# Altium schematic symbol library 20231022_PIFProject_LibSch_VuHuy_v1.SchLib: 7 symbols
Pins are listed as number, name and electrical type; pins without a type are passive.

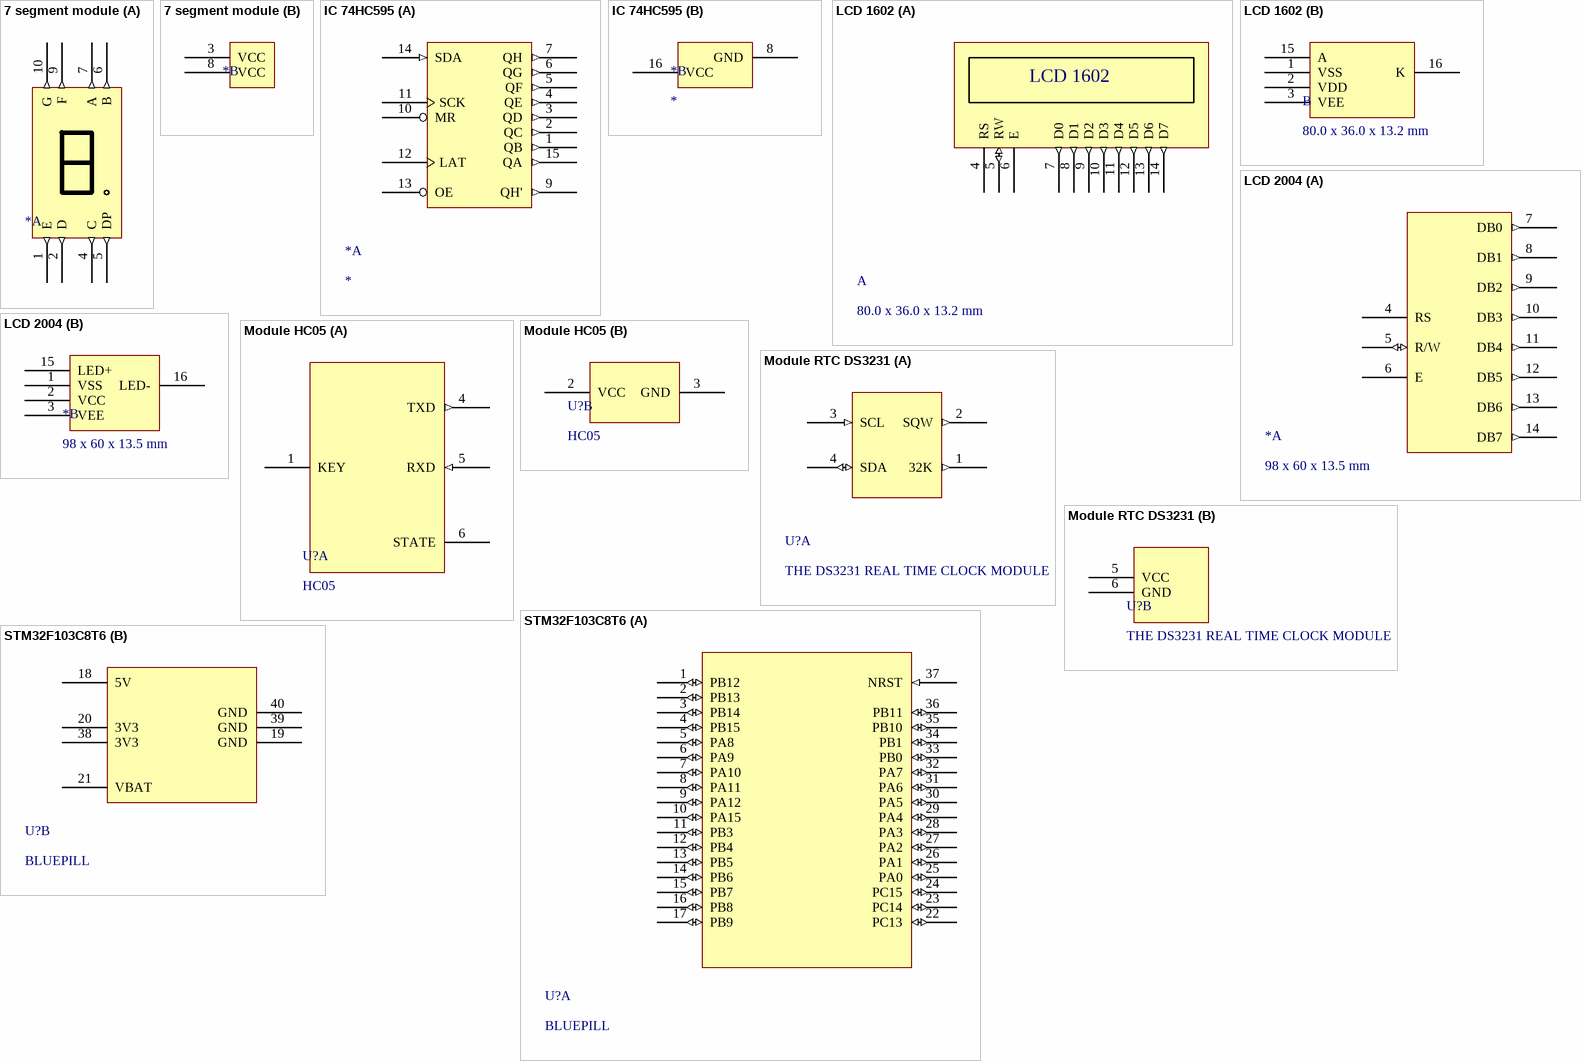
[diagram p0: symbols 7 segment module to STM32F103C8T6]

## 7 segment module
designator *
DISPLAY LED 7-SEG 0,56
footprint 7 Segment Module
part A pins: 1 E (out), 2 D (out), 4 C (out), 5 DP (out), 6 B (out), 7 A (out), 9 F (out), 10 G (out)
part B pins: 3 VCC (power), 8 VCC (power)

## IC 74HC595
designator *
Điện áp hoạt động: 2V đến 6V; Mức tiêu thụ điện: 80uA; Source ra / dòng sink: 35mA; Điện áp đầu vào mức cao tối thiểu: 3,15V @ (Vcc = 4,5V); Điện áp đầu vào mức thấp tối đa: 1.35V @ (Vcc = 4.5V)
footprint IC 74HC595 (SOIC, 16-Leads, Body 10x6.2mm, Pitch 1,27mm, IPC Medium Density)
part A pins: 1 QB (out), 2 QC (out), 3 QD (out), 4 QE (out), 5 QF (out), 6 QG (out), 7 QH (out), 9 QH' (out), 10 MR, 11 SCK, 12 LAT, 13 OE, 14 SDA (in), 15 QA (out)
part B pins: 8 GND, 16 VCC (power)

## LCD 1602
designator ?, comment 80.0 x 36.0 x 13.2 mm
Display format: 16 x 2 characters; Built-in controller: ST 7066 (or equivalent); Duty cycle: 1/16; power supply: 5 V; Type: Character; Parameter 6: *; Parameter 7: *; Parameter 8: *
footprint LCD 1602
part A pins: 4 RS, 5 RW (io), 6 E, 7 D0 (out), 8 D1 (out), 9 D2 (out), 10 D3 (out), 11 D4 (out), 12 D5 (out), 13 D6 (out), 14 D7 (out)
part B pins: 1 VSS (power), 2 VDD (power), 3 VEE (power), 15 A, 16 K

## LCD 2004
designator *, comment 98 x 60 x 13.5 mm
Điện áp hoạt động: 5 V; Chữ đen, nền xanh dương/ chữ trắng, nền xanh dương: *; driver HD44780: *
footprint LCD 2004
part A pins: 4 RS, 5 R/W (io), 6 E, 7 DB0 (out), 8 DB1 (out), 9 DB2 (out), 10 DB3 (out), 11 DB4 (out), 12 DB5 (out), 13 DB6 (out), 14 DB7 (out)
part B pins: 1 VSS, 2 VCC, 3 VEE, 15 LED+, 16 LED-

## Module HC05
designator U?, comment HC05
/ Sensitivity: ≤-84dBm at 0.1% BER / Speed: Asynchronous communication: 2.1Mbps (Max) / 160 kbps, Synchronous communication: 1Mbps/1Mbps / Security: Authentication and encryption / Profiles: Bluetooth serial port / Working temperature: -20 ~ +75Centigrade / Dimension: 26.9mm x 13mm x 2.2 mm; Frequency: 2.4GHz ISM band; Supply Voltage: +3.3V to 6.0 V; Emission power: ≤4dBm, Class 2; Supply Current: 30mA; Bluetooth protocol: Bluetooth Specification v2.0+EDR (Enhanced Data Rate); Parameter 1: *; Parameter 2: *
footprint Module HC05 (Dimension: 26.9mm x 13mm x 2.2 mm)
part A pins: 1 KEY, 4 TXD (out), 5 RXD (in), 6 STATE
part B pins: 2 VCC (power), 3 GND

## Module RTC DS3231
designator U?, comment THE DS3231 REAL TIME CLOCK MODULE
Accuracy: +2ppm to -2ppm for 0ºC to +40ºC , +3.5ppm to -3.5ppm for -40ºC to +85ºC; Digital temperature sensor: ±3ºC accuracy; Two Time-of-day alarms: *; Programmable square wave output: *; Parameter 5: *
footprint MODULE RTC DS3231
part A pins: 1 32K (out), 2 SQW (out), 3 SCL (in), 4 SDA (io)
part B pins: 5 VCC (power), 6 GND

## STM32F103C8T6
designator U?, comment BLUEPILL
Stmicroelectronics - Microcontroller Mcu, 32 Bit, Cortex-M3, 72Mhz, Lqfp-48 - Stm32F103C8T6 |Stmicroelectronics STM32F103C8T6; Manufacturer: ST-Microelectronics; Core: Arm Cortex-M3; Sources: Any +3.3V pin (+3.3V); Max. Clock Speed: 72MHz; Package: LQFP 40 pins
footprint STM32F103 BLUEPILL (Dimension 53.34x15.24mm)
part A pins: 1 PB12 (io), 2 PB13 (io), 3 PB14 (io), 4 PB15 (io), 5 PA8 (io), 6 PA9 (io), 7 PA10 (io), 8 PA11 (io), 9 PA12 (io), 10 PA15 (io), 11 PB3 (io), 12 PB4 (io), 13 PB5 (io), 14 PB6 (io), 15 PB7 (io), 16 PB8 (io), 17 PB9 (io), 22 PC13 (io), 23 PC14 (io), 24 PC15 (io), 25 PA0 (io), 26 PA1 (io), 27 PA2 (io), 28 PA3 (io), 29 PA4 (io), 30 PA5 (io), 31 PA6 (io), 32 PA7 (io), 33 PB0 (io), 34 PB1 (io), 35 PB10 (io), 36 PB11 (io), 37 NRST (in)
part B pins: 18 5V, 19 GND, 20 3V3, 21 VBAT, 38 3V3, 39 GND, 40 GND